# Altium footprint library CN HDR JTAG.PcbLib: 1 footprints
Each footprint in its own frame and in the unit in brackets; x right, y up, seen from the top. Pads: shape width x height; smd on the part's side, far side on the other; paste and mask are expansions set on the pad; w line width, h text height; cw(c..) or ccw(c..) is an arc to the next point about the centre after c.
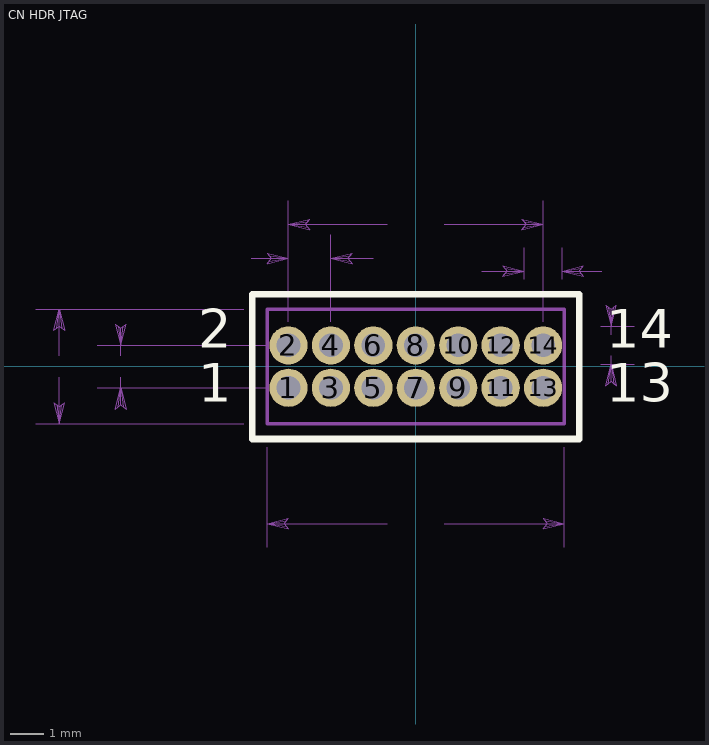
[diagram p0: the footprint, top view; thin cyan lines are the x and y axes]

## CN HDR JTAG [mil] "CONN HEADER VERT 14POS 1.27MM"
pads (14):
  round 45 hole 27.95: 1(-150,-25.39) 2(-150,24.61) 3(-100,-25.39) 4(-100,24.61) 5(-50,-25.39) 6(-50,24.61) 7(0,-25.39) 8(0,24.61) 9(50,-25.39) 10(50,24.61) 11(100,-25.39) 12(100,24.61) 13(150,-25.39) 14(150,24.61)
Top Overlay:
  lines w7.87: -192.72,-85.63 192.72,-85.63 192.72,84.85 -192.72,84.85 -192.72,-85.63
  text "14" at 224.53,6.62 h77.5
  text "13" at 224.53,-57.4 h77.5
  text "2" at -256.02,6.62 h77.5
  text "1" at -256.02,-57.4 h77.5
Top Solder:
  circle w0: c150,24.61 r24.51
  circle w0: c150,-25.39 r24.51
  circle w0: c100,24.61 r24.51
  circle w0: c100,-25.39 r24.51
  circle w0: c50,24.61 r24.51
  circle w0: c50,-25.39 r24.51
  circle w0: c0,24.61 r24.51
  circle w0: c0,-25.39 r24.51
  circle w0: c-50,24.61 r24.51
  circle w0: c-50,-25.39 r24.51
  circle w0: c-100,24.61 r24.51
  circle w0: c-100,-25.39 r24.51
  circle w0: c-150,24.61 r24.51
  circle w0: c-150,-25.39 r24.51
Bottom Solder:
  circle w0: c150,24.61 r24.51
  circle w0: c150,-25.39 r24.51
  circle w0: c100,24.61 r24.51
  circle w0: c100,-25.39 r24.51
  circle w0: c50,24.61 r24.51
  circle w0: c50,-25.39 r24.51
  circle w0: c0,24.61 r24.51
  circle w0: c0,-25.39 r24.51
  circle w0: c-50,24.61 r24.51
  circle w0: c-50,-25.39 r24.51
  circle w0: c-100,24.61 r24.51
  circle w0: c-100,-25.39 r24.51
  circle w0: c-150,24.61 r24.51
  circle w0: c-150,-25.39 r24.51
Mechanical 15:
  lines w3.94: -175,-67.87 -175,67.09 -125,67.09 -75,67.09 -25,67.09 25,67.09 75,67.09 125,67.09 175,67.09 175,-67.87 125,-67.87 ; -175,-67.87 -125,-67.87 ; -175,-67.87 -125,-67.87 ; -125,-67.87 -75,-67.87 ; -125,-67.87 -75,-67.87 ; -75,-67.87 -25,-67.87 ; -75,-67.87 -25,-67.87 ; -25,-67.87 25,-67.87 ; -25,-67.87 25,-67.87 ; 25,-67.87 75,-67.87 ; 25,-67.87 75,-67.87 ; 75,-67.87 125,-67.87 ; 75,-67.87 125,-67.87
Mechanical 16:
  lines w3.94: -175,67.09 -125,67.09 -75,67.09 -25,67.09 25,67.09 75,67.09 125,67.09 ; -157.99,-33.38 -157.99,-17.4 ; -157.99,-33.38 -142.01,-33.38 ; -157.99,-33.38 -142.01,-33.38 ; -157.99,-33.38 -157.99,-17.4 ; -157.99,-17.4 -142.01,-17.4 ; -157.99,-17.4 -142.01,-17.4 ; -157.99,16.62 -157.99,32.6 ; -157.99,16.62 -142.01,16.62 ; -157.99,16.62 -142.01,16.62 ; -157.99,16.62 -157.99,32.6 ; -157.99,32.6 -142.01,32.6 ; -157.99,32.6 -142.01,32.6 ; -142.01,-33.38 -142.01,-17.4 ; -142.01,-33.38 -142.01,-17.4 ; -142.01,16.62 -142.01,32.6 ; -142.01,16.62 -142.01,32.6 ; -107.99,-33.38 -107.99,-17.4 ; -107.99,-33.38 -92.01,-33.38 ; -107.99,-33.38 -92.01,-33.38 ; -107.99,-33.38 -107.99,-17.4 ; -107.99,-17.4 -92.01,-17.4 ; -107.99,-17.4 -92.01,-17.4 ; -107.99,16.62 -107.99,32.6 ; -107.99,16.62 -92.01,16.62 ; -107.99,16.62 -92.01,16.62 ; -107.99,16.62 -107.99,32.6 ; -107.99,32.6 -92.01,32.6 ; -107.99,32.6 -92.01,32.6 ; -92.01,-33.38 -92.01,-17.4 ; -92.01,-33.38 -92.01,-17.4 ; -92.01,16.62 -92.01,32.6 ; -92.01,16.62 -92.01,32.6 ; -57.99,-33.38 -57.99,-17.4 ; -57.99,-33.38 -42.01,-33.38 ; -57.99,-33.38 -42.01,-33.38 ; -57.99,-33.38 -57.99,-17.4 ; -57.99,-17.4 -42.01,-17.4 ; -57.99,-17.4 -42.01,-17.4 ; -57.99,16.62 -57.99,32.6 ; -57.99,16.62 -42.01,16.62 ; -57.99,16.62 -42.01,16.62 ; -57.99,16.62 -57.99,32.6 ; -57.99,32.6 -42.01,32.6 ; -57.99,32.6 -42.01,32.6 ; -42.01,-33.38 -42.01,-17.4 ; -42.01,-33.38 -42.01,-17.4 ; -42.01,16.62 -42.01,32.6 ; -42.01,16.62 -42.01,32.6 ; -7.99,-33.38 -7.99,-17.4 ; -7.99,-33.38 7.99,-33.38 ; -7.99,-33.38 7.99,-33.38 ; -7.99,-33.38 -7.99,-17.4 ; -7.99,-17.4 7.99,-17.4 ; -7.99,-17.4 7.99,-17.4 ; -7.99,16.62 -7.99,32.6 ; -7.99,16.62 7.99,16.62 ; -7.99,16.62 7.99,16.62 ; -7.99,16.62 -7.99,32.6 ; -7.99,32.6 7.99,32.6 ; -7.99,32.6 7.99,32.6 ; 7.99,-33.38 7.99,-17.4 ; 7.99,-33.38 7.99,-17.4 ; 7.99,16.62 7.99,32.6 ; 7.99,16.62 7.99,32.6 ; 42.01,-33.38 42.01,-17.4 ; 42.01,-33.38 57.99,-33.38 ; 42.01,-33.38 57.99,-33.38 ; 42.01,-33.38 42.01,-17.4 ; 42.01,-17.4 57.99,-17.4 ; 42.01,-17.4 57.99,-17.4 ; 42.01,16.62 42.01,32.6 ; 42.01,16.62 57.99,16.62 ; 42.01,16.62 57.99,16.62 ; 42.01,16.62 42.01,32.6 ; 42.01,32.6 57.99,32.6 ; 42.01,32.6 57.99,32.6 ; 57.99,-33.38 57.99,-17.4 ; 57.99,-33.38 57.99,-17.4 ; 57.99,16.62 57.99,32.6 ; 57.99,16.62 57.99,32.6 ; 92.01,-33.38 92.01,-17.4 ; 92.01,-33.38 107.99,-33.38 ; 92.01,-33.38 107.99,-33.38 ; 92.01,-33.38 92.01,-17.4 ; 92.01,-17.4 107.99,-17.4 ; 92.01,-17.4 107.99,-17.4 ; 92.01,16.62 92.01,32.6 ; 92.01,16.62 107.99,16.62 ; 92.01,16.62 107.99,16.62 ; 92.01,16.62 92.01,32.6 ; 92.01,32.6 107.99,32.6 ; 92.01,32.6 107.99,32.6 ; 107.99,-33.38 107.99,-17.4 ; 107.99,-33.38 107.99,-17.4 ; 107.99,16.62 107.99,32.6 ; 107.99,16.62 107.99,32.6 ; 142.01,-33.38 142.01,-17.4 157.99,-17.4 157.99,-33.38 142.01,-33.38 ; 142.01,16.62 142.01,32.6 157.99,32.6 157.99,16.62 142.01,16.62
  text "14" at 224.53,6.62 h77.5
  text "13" at 224.53,-57.4 h77.5
  text "2" at -256.02,6.62 h77.5
  text "1" at -256.02,-57.4 h77.5
Mechanical 40:
  drawing of 154 lines, arcs and shapes, not listed
  text "1.143" at 226.5,107.09 h15.5
  text "1.143" at 204.02,19.61 h15.5
  text "7.620" at -25.98,162.13 h15.5
  text "8.890" at -25.98,-190.39 h15.5
  text "1.270" at -253.5,122.13 h15.5
  text "3.429" at -445.98,-5.39 h15.5
  text "1.270" at -373.5,-5.39 h15.5
3D body "FTSH-107-04-L-D.stp": height 249, standoff -90, extent -174.99,-67.89 175,67.11